# Altium integrated library SS5-10-3.00-X-D-K-XX.IntLib: 1 symbol
Pins are listed as number, name and electrical type; pins without a type are passive.

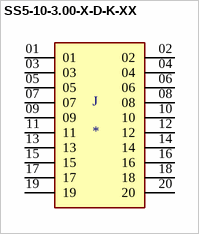
[diagram p0: symbol SS5-10-3.00-X-D-K-XX]

## SS5-10-3.00-X-D-K-XX
designator J
0.50mm Socket Strip Assembly; MP: SS5-10-3.00-X-D-K-XX; MF: Samtec Inc.; Availability: Unavailable; Price: None; Package: None; Value: *
footprint SAMTEC_SS5-10-3.00-X-D-K-XX
pins: 01, 02, 03, 04, 05, 06, 07, 08, 09, 10, 11, 12, 13, 14, 15, 16, 17, 18, 19, 20